# EAGLE library part SCREWTEM_6 (library dedenbear)
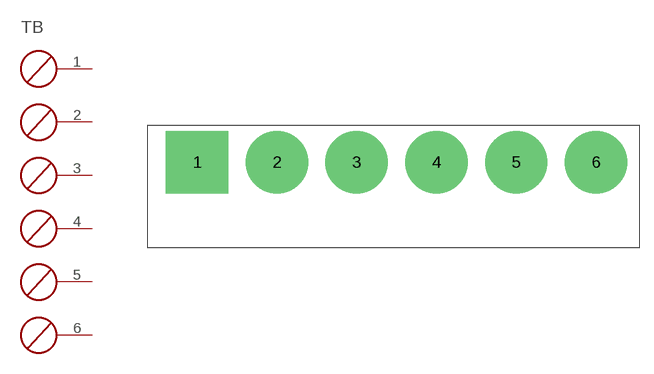
[diagram p1: symbol with the pads of TRMNL_BLK6; footprint TRMNL_BLK6]

Designator prefix TB

## SCREWTEM_6  [TRMNL_BLK6]
1  P$1  pas
2  P$2  pas
3  P$3  pas
4  P$4  pas
5  P$5  pas
6  P$6  pas

## Footprint TRMNL_BLK6 (pad centres in mm)
drill 1.676 pad 6.452 square: 1 -20.32,0
drill 1.676 pad 6.452 round: 2 -12.065,0; 3 -3.81,0; 4 4.445,0; 5 12.7,0; 6 20.955,0